# Altium footprint library ZYNQ7010_add.PcbLib: 9 footprints
Each footprint in its own frame and in the unit in brackets; x right, y up, seen from the top. Pads: shape width x height; smd on the part's side, far side on the other; paste and mask are expansions set on the pad; w line width, h text height; cw(c..) or ccw(c..) is an arc to the next point about the centre after c.
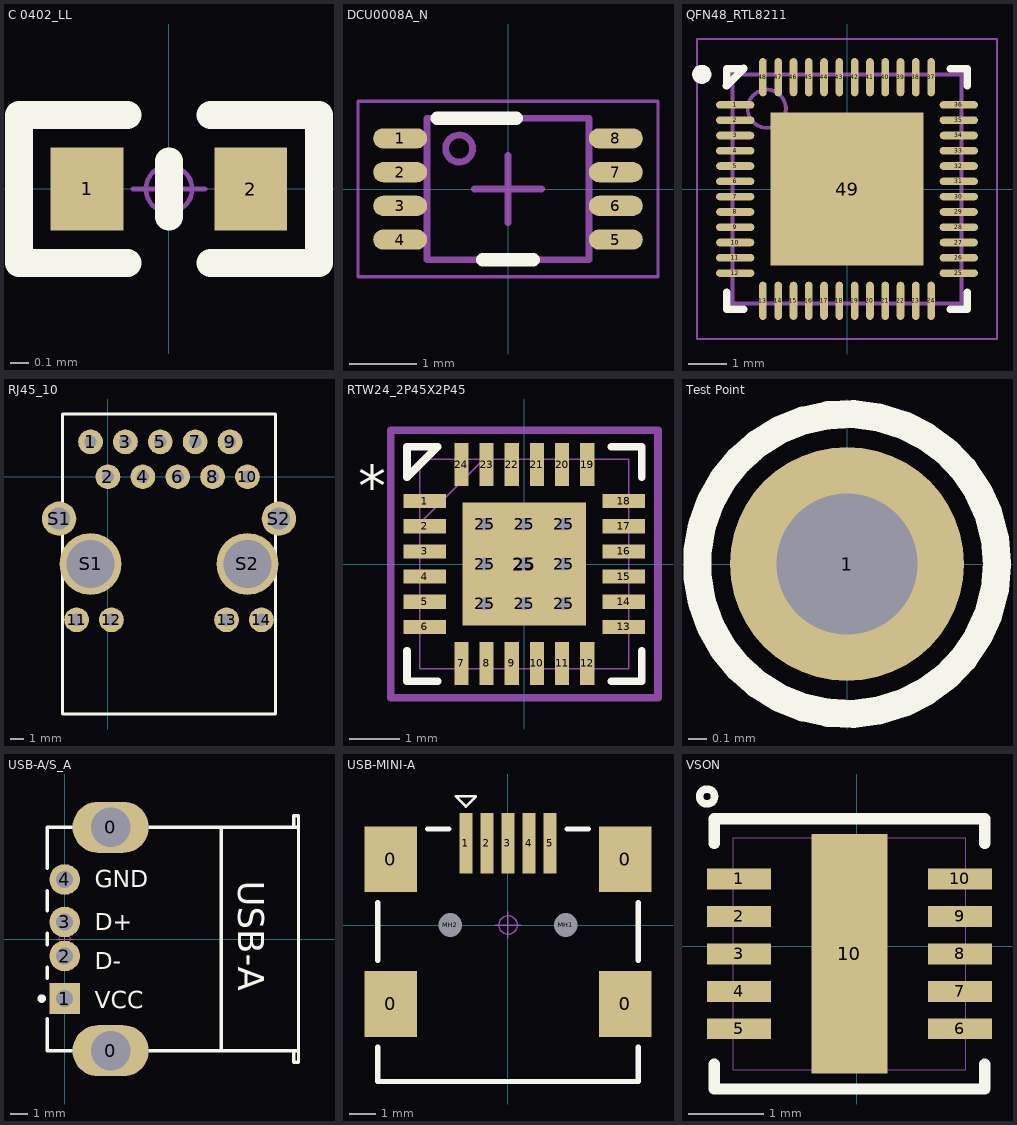
[diagram p0: the footprints below, top view; thin cyan lines are the x and y axes]

## C 0402_LL [mil] "无极性贴片电容"
height 59.06
pads (2):
  rect 15.75x18 smd: 1(-17.72,0) 2(17.71,0)
Top Overlay:
  lines w6: -9,-16 -32.46,-16 ; -9,16 -32.46,16 -32.46,-15.99 ; 0,-6 0,6 ; 9,-16 32.46,-16 32.46,16 9,16 ; -32.46,-15.99 -32.45,-15.99
Mechanical 15:
  circle w1: c0,0 r5
  lines w1: -7.87,0 7.87,0 ; 0,-7.87 0,7.87
3D body "C 0402.STEP": height 20.68, standoff 0.21, extent -19.69,-10.24 19.69,10.24

## DCU0008A_N [mm]
pads (8):
  oval 0.8x0.3 smd paste+0 mask+0.051: 1(-1.6,0.75) 2(-1.6,0.25) 3(-1.6,-0.25) 4(-1.6,-0.75) 5(1.6,-0.75) 6(1.6,-0.25) 7(1.6,0.25) 8(1.6,0.75)
Top Overlay:
  lines w0.2: -1.05,1.05 0.125,1.05 ; -0.375,-1.05 0.375,-1.05
Mechanical 13:
  circle w0.1: c-0.725,0.6 r0.2
  lines w0.1: -1.2,-1.05 -1.2,1.05 1.2,1.05 1.2,-1.05 -1.2,-1.05
Mechanical 15:
  lines w0.05: -2.225,-1.3 2.225,-1.3 2.225,1.3 -2.225,1.3 -2.225,-1.3
  lines w0.1: -0.5,0 0.5,0 ; 0,-0.5 0,0.5
3D body "DCU0008A.stp": height 0.77, standoff 0, extent -1.55,-1 1.55,1
3D body: height 0.25, standoff 0, extent 0,0 0.254,0.254

## QFN48_RTL8211 [mm] "QFN, 48-Leads, Body 6.00x6.00mm, Pitch 0.40mm, Thermal Pad 4.40x4.40mm, IPC Low Density"
height 0.8
pads (49):
  oval 1x0.2 smd: 1(-2.925,2.2) 2(-2.925,1.8) 3(-2.925,1.4) 4(-2.925,1) 5(-2.925,0.6) 6(-2.925,0.2) 7(-2.925,-0.2) 8(-2.925,-0.6) 9(-2.925,-1) 10(-2.925,-1.4) 11(-2.925,-1.8) 12(-2.925,-2.2) 25(2.925,-2.2) 26(2.925,-1.8) 27(2.925,-1.4) 28(2.925,-1) 29(2.925,-0.6) 30(2.925,-0.2) 31(2.925,0.2) 32(2.925,0.6) 33(2.925,1) 34(2.925,1.4) 35(2.925,1.8) 36(2.925,2.2)
  oval 0.2x1 smd: 13(-2.2,-2.925) 14(-1.8,-2.925) 15(-1.4,-2.925) 16(-1,-2.925) 17(-0.6,-2.925) 18(-0.2,-2.925) 19(0.2,-2.925) 20(0.6,-2.925) 21(1,-2.925) 22(1.4,-2.925) 23(1.8,-2.925) 24(2.2,-2.925) 37(2.2,2.925) 38(1.8,2.925) 39(1.4,2.925) 40(1,2.925) 41(0.6,2.925) 42(0.2,2.925) 43(-0.2,2.925) 44(-0.6,2.925) 45(-1,2.925) 46(-1.4,2.925) 47(-1.8,2.925) 48(-2.2,2.925)
  rect 4x4 smd: 49(0,0)
Top Overlay:
  circle w0.25: c-3.8,3 r0.125
  lines w0.2: -3.15,-2.7 -3.15,-3.15 -2.7,-3.15 ; -3.15,2.7 -3.15,3.15 -2.7,3.15 ; 2.7,-3.15 3.15,-3.15 3.15,-2.7 ; 2.7,3.15 3.15,3.15 3.15,2.7
  lines w0.203: -3.15,2.7 -2.7,3.15
Mechanical 13:
  circle w0.1: c-2.1,2.1 r0.5
  lines w0.1: -3,-3 3,-3 3,3 -3,3 -3,-3
Mechanical 15:
  lines w0.05: -3.925,-3.925 3.925,-3.925 3.925,3.925 -3.925,3.925 -3.925,-3.925
  lines w0.1: -0.5,0 0.5,0 ; 0,-0.5 0,0.5
3D body: height 0.8, standoff 0.01, extent -3,-3 3,3

## RJ45_10 [mm]
height 1.5
pads (18):
  round 1.8 hole 0.9: 1(-1.27,2.54) 2(0,0) 3(1.27,2.54) 4(2.54,0) 5(3.81,2.54) 6(5.08,0) 7(6.35,2.54) 8(7.62,0) 9(8.89,2.54) 10(10.16,0) 11(-2.286,-10.414) 12(0.254,-10.414) 13(8.636,-10.414) 14(11.176,-10.414)
  round 2.5 hole 1.6: S1(-3.556,-3.048) S2(12.446,-3.048)
  round 4.5 hole 3.5: S1(-1.27,-6.35) S2(10.16,-6.35)
Top Overlay:
  lines w0.2: -3.302,-17.272 -3.302,4.572 12.192,4.572 12.192,-17.272 -3.302,-17.272
3D body "User Library-HFJ11-1G01ER.STEP": height 1.34, standoff -17.36, extent -5.514,-17.245 14.478,4.545

## RTW24_2P45X2P45 [mm]
pads (34):
  rect 0.85x0.28 smd paste-0.14: 1(-1.975,1.25) 2(-1.975,0.75) 3(-1.975,0.25) 4(-1.975,-0.25) 5(-1.975,-0.75) 6(-1.975,-1.25) 13(1.975,-1.25) 14(1.975,-0.75) 15(1.975,-0.25) 16(1.975,0.25) 17(1.975,0.75) 18(1.975,1.25)
  rect 0.28x0.85 smd paste-0.14: 7(-1.25,-1.975) 8(-0.75,-1.975) 9(-0.25,-1.975) 10(0.25,-1.975) 11(0.75,-1.975) 12(1.25,-1.975) 19(1.25,1.975) 20(0.75,1.975) 21(0.25,1.975) 22(-0.25,1.975) 23(-0.75,1.975) 24(-1.25,1.975)
  round 0.508 hole 0.254: 25(-0.787,-0.787) 25(-0.787,0) 25(-0.787,0.787) 25(0,-0.787) 25(0,0) 25(0,0.787) 25(0.787,-0.787) 25(0.787,0) 25(0.787,0.787)
  rect 2.45x2.45 smd paste-1.212 mask-1.206: 25(0,0)
Top Overlay:
  lines w0.152: -2.329,-1.723 -2.329,-2.329 -1.723,-2.329 ; 1.723,-2.329 2.329,-2.329 2.329,-1.723 ; 1.723,2.329 2.329,2.329 2.329,1.723 ; -1.723,2.329 -2.329,1.723 -2.329,2.329 -1.723,2.329 ; -1.723,2.329 -1.723,2.329
  text "*" at -3.302,1.143 h0.81
Top Paste:
  drawing of 40 lines, arcs and shapes, not listed
Top Solder:
  region: 0.987,-1.289 0.987,1.289 1.289,1.289 1.289,-1.289
  region: 0.587,-1.289 0.587,1.289 0.2,1.289 0.2,-1.289
  region: -0.2,-1.289 -0.2,1.289 -0.587,1.289 -0.587,-1.289
  region: -1.289,-1.289 -1.289,1.289 -0.987,1.289 -0.987,-1.289
  region: -1.289,-1.289 -1.289,-0.987 1.289,-0.987 1.289,-1.289
  region: -1.289,-0.587 -1.289,-0.2 1.289,-0.2 1.289,-0.587
  region: -1.289,0.2 -1.289,0.587 1.289,0.587 1.289,0.2
  region: -1.289,0.987 -1.289,1.289 1.289,1.289 1.289,0.987
  region: -1.04,2.47 -1.46,2.47 -1.46,1.48 -1.04,1.48
  region: -0.54,2.47 -0.96,2.47 -0.96,1.48 -0.54,1.48
  region: -0.04,2.47 -0.46,2.47 -0.46,1.48 -0.04,1.48
  region: 0.46,2.47 0.04,2.47 0.04,1.48 0.46,1.48
  region: 0.96,2.47 0.54,2.47 0.54,1.48 0.96,1.48
  region: 1.46,2.47 1.04,2.47 1.04,1.48 1.46,1.48
  region: 2.47,1.46 1.48,1.46 1.48,1.04 2.47,1.04
  region: 2.47,0.96 1.48,0.96 1.48,0.54 2.47,0.54
  region: 2.47,0.46 1.48,0.46 1.48,0.04 2.47,0.04
  region: 2.47,-0.04 1.48,-0.04 1.48,-0.46 2.47,-0.46
  region: 2.47,-0.54 1.48,-0.54 1.48,-0.96 2.47,-0.96
  region: 2.47,-1.04 1.48,-1.04 1.48,-1.46 2.47,-1.46
  region: 1.46,-1.48 1.04,-1.48 1.04,-2.47 1.46,-2.47
  region: 0.96,-1.48 0.54,-1.48 0.54,-2.47 0.96,-2.47
  region: 0.46,-1.48 0.04,-1.48 0.04,-2.47 0.46,-2.47
  region: -0.04,-1.48 -0.46,-1.48 -0.46,-2.47 -0.04,-2.47
  region: -0.54,-1.48 -0.96,-1.48 -0.96,-2.47 -0.54,-2.47
  region: -1.04,-1.48 -1.46,-1.48 -1.46,-2.47 -1.04,-2.47
  region: -1.48,-1.04 -2.47,-1.04 -2.47,-1.46 -1.48,-1.46
  region: -1.48,-0.54 -2.47,-0.54 -2.47,-0.96 -1.48,-0.96
  region: -1.48,-0.04 -2.47,-0.04 -2.47,-0.46 -1.48,-0.46
  region: -1.48,0.46 -2.47,0.46 -2.47,0.04 -1.48,0.04
  region: -1.48,0.96 -2.47,0.96 -2.47,0.54 -1.48,0.54
  region: -1.48,1.46 -2.47,1.46 -2.47,1.04 -1.48,1.04
Mechanical 13:
  lines w0.025: -2.075,0.805 -0.805,2.075 ; -2.075,-2.075 -2.075,2.075 2.075,2.075 2.075,-2.075 -2.075,-2.075 ; -2.075,-1.4 -2.075,-1.1 -2.075,-1.4 ; -2.075,-0.9 -2.075,-0.6 -2.075,-0.9 ; -2.075,-0.4 -2.075,-0.1 -2.075,-0.4 ; -2.075,0.1 -2.075,0.4 -2.075,0.1 ; -2.075,0.6 -2.075,0.9 -2.075,0.6 ; -2.075,1.1 -2.075,1.4 -2.075,1.1 ; -1.4,-2.075 -1.1,-2.075 -1.4,-2.075 ; -1.4,2.075 -1.1,2.075 -1.4,2.075 ; -0.9,-2.075 -0.6,-2.075 -0.9,-2.075 ; -0.9,2.075 -0.6,2.075 -0.9,2.075 ; -0.4,-2.075 -0.1,-2.075 -0.4,-2.075 ; -0.4,2.075 -0.1,2.075 -0.4,2.075 ; 0.1,-2.075 0.4,-2.075 0.1,-2.075 ; 0.1,2.075 0.4,2.075 0.1,2.075 ; 0.6,-2.075 0.9,-2.075 0.6,-2.075 ; 0.6,2.075 0.9,2.075 0.6,2.075 ; 1.1,-2.075 1.4,-2.075 1.1,-2.075 ; 1.1,2.075 1.4,2.075 1.1,2.075 ; 2.075,-1.4 2.075,-1.1 2.075,-1.4 ; 2.075,-0.9 2.075,-0.6 2.075,-0.9 ; 2.075,-0.4 2.075,-0.1 2.075,-0.4 ; 2.075,0.1 2.075,0.4 2.075,0.1 ; 2.075,0.6 2.075,0.9 2.075,0.6 ; 2.075,1.1 2.075,1.4 2.075,1.1
Mechanical 15:
  lines w0.152: -2.654,-2.654 2.654,-2.654 2.654,2.654 -2.654,2.654 -2.654,-2.654
3D body "RTW24_2P45X2P45.step": height 0.74, standoff 0, extent -2.126,-2.126 2.126,2.126
3D body "RTW0024B.stp": height 0.8, standoff 0, extent -2,-2 2,2

## Test Point [mil]
pads (1):
  round 50 hole 30: 1(0,0)
Top Overlay:
  circle w6: c0,0 r32.02
Bottom Overlay:
  circle w6: c0,0 r32.02

## USB-A/S_A [mm] "A型直插母头，（一升设计）"
height 7.01
pads (6):
  oval 4.5x3 hole 2.3: 0(2.71,-6.57) 0(2.71,6.57)
  rect 1.8x1.8 hole 1: 1(0,-3.5)
  round 1.8 hole 1: 2(0,-1) 3(0,1) 4(0,3.5)
Top Overlay:
  circle w0.25: c-1.35,-3.5 r0.125
  lines w0.2: -1.01,-4.7 -1.01,-6.565 0.41,-6.565 ; -1.01,-2.3 -1.01,-1.66 ; -1.01,-0.34 -1.01,0.34 ; -1.01,1.66 -1.01,2.84 ; -1.01,4.16 -1.01,6.565 0.41,6.565 ; 5.01,-6.565 13.752,-6.565 ; 5.01,6.565 13.752,6.565 ; 13.462,-6.565 13.462,-7.25 13.752,-7.25 13.752,7.25 13.462,7.25 13.462,6.565
  lines w0.203: 9.21,-6.565 9.21,6.565
  text "GND" at 1.778,3.048 h1.02
  text "D+" at 1.778,0.508 h1.02
  text "D-" at 1.778,-1.778 h1.02
  text "VCC" at 1.778,-4.064 h1.02
  text "USB-A" at 10.21,3.43 h1.52
Mechanical 15:
  circle w0.05: c0,0 r0.35
  lines w0.05: -0.5,0 0.5,0 ; 0,-0.5 0,0.5
3D body "USB A型 ?": height 6.8, standoff -4.31, extent -0.605,-7.342 13.7,7.342

## USB-MINI-A [mm] "MINI型USB，7.9*7.5*4.1mm"
pads (11):
  rect 2x2.5 smd: 0(-4.45,-3) 0(-4.45,2.5) 0(4.45,-3) 0(4.45,2.5)
  rect 0.5x2.3 smd: 1(-1.6,3.108) 2(-0.8,3.108) 3(0,3.108) 4(0.8,3.108) 5(1.6,3.108)
  round 0.6 hole 0.9 unplated: MH1(2.2,0) MH2(-2.2,0)
Top Overlay:
  lines w0.1: -1.981,4.886 -1.6,4.505 -1.219,4.886 -1.981,4.886
  lines w0.2: -4.95,-4.65 -4.95,-5.95 4.95,-5.95 4.95,-4.65 ; -4.95,-1.35 -4.95,0.85 ; -3.05,3.65 -2.25,3.65 ; 2.25,3.65 3.05,3.65 ; 4.95,-1.35 4.95,0.85
Mechanical 15:
  circle w0.05: c0,0 r0.35
  lines w0.05: -0.5,0 0.5,0 ; 0,-0.5 0,0.5
3D body "USB MINI B型 ?": height 3.95, standoff -0.7, extent -4.75,-6 4.75,3.7

## VSON [mm]
height 1.5
pads (11):
  rect 0.85x0.28 smd paste-0.14: 1(-1.575,0.9) 2(-1.575,0.4) 3(-1.575,-0.1) 4(-1.575,-0.6) 5(-1.575,-1.1) 6(1.375,-1.1) 7(1.375,-0.6) 8(1.375,-0.1) 9(1.375,0.4) 10(1.375,0.9)
  rect 1.016x3.2 smd paste-0.932: 10(-0.1,-0.1)
Top Overlay:
  circle w0.1: c-2,2 r0.1
  lines w0.152: -1.904,-1.573 -1.904,-1.904 1.704,-1.904 1.704,-1.573 ; -1.904,1.373 -1.904,1.704 1.704,1.704 1.704,1.373
Top Paste:
  region: -1.185,1.005 -1.965,1.005 -1.965,0.795 -1.185,0.795
  region: -1.185,0.505 -1.965,0.505 -1.965,0.295 -1.185,0.295
  region: -1.185,0.005 -1.965,0.005 -1.965,-0.205 -1.185,-0.205
  region: -1.185,-0.495 -1.965,-0.495 -1.965,-0.705 -1.185,-0.705
  region: -1.185,-0.995 -1.965,-0.995 -1.965,-1.205 -1.185,-1.205
  region: 1.765,-0.995 0.985,-0.995 0.985,-1.205 1.765,-1.205
  region: 1.765,-0.495 0.985,-0.495 0.985,-0.705 1.765,-0.705
  region: 1.765,0.005 0.985,0.005 0.985,-0.205 1.765,-0.205
  region: 1.765,0.505 0.985,0.505 0.985,0.295 1.765,0.295
  region: 1.765,1.005 0.985,1.005 0.985,0.795 1.765,0.795
Top Solder:
  region: -1.115,1.075 -2.035,1.075 -2.035,0.725 -1.115,0.725
  region: -1.115,0.575 -2.035,0.575 -2.035,0.225 -1.115,0.225
  region: -1.115,0.075 -2.035,0.075 -2.035,-0.275 -1.115,-0.275
  region: -1.115,-0.425 -2.035,-0.425 -2.035,-0.775 -1.115,-0.775
  region: -1.115,-0.925 -2.035,-0.925 -2.035,-1.275 -1.115,-1.275
  region: 1.835,-0.925 0.915,-0.925 0.915,-1.275 1.835,-1.275
  region: 1.835,-0.425 0.915,-0.425 0.915,-0.775 1.835,-0.775
  region: 1.835,0.075 0.915,0.075 0.915,-0.275 1.835,-0.275
  region: 1.835,0.575 0.915,0.575 0.915,0.225 1.835,0.225
  region: 1.835,1.075 0.915,1.075 0.915,0.725 1.835,0.725
Mechanical 1:
  lines w0: -0.405,1.45 ccw(c-0.1,1.45) 0.205,1.45 ; -1.65,-1.65 1.45,-1.65 1.45,1.45 -1.65,1.45 -1.65,-1.65
3D body "User Library-SON10_3x3x0_8mm.STEP": height 0.8, standoff 0, extent -1.601,-1.601 1.401,1.401